# Altium footprint library PARSEC(1).PcbLib: 16 footprints
Each footprint in its own frame and in the unit in brackets; x right, y up, seen from the top. Pads: shape width x height; smd on the part's side, far side on the other; paste and mask are expansions set on the pad; w line width, h text height; cw(c..) or ccw(c..) is an arc to the next point about the centre after c.
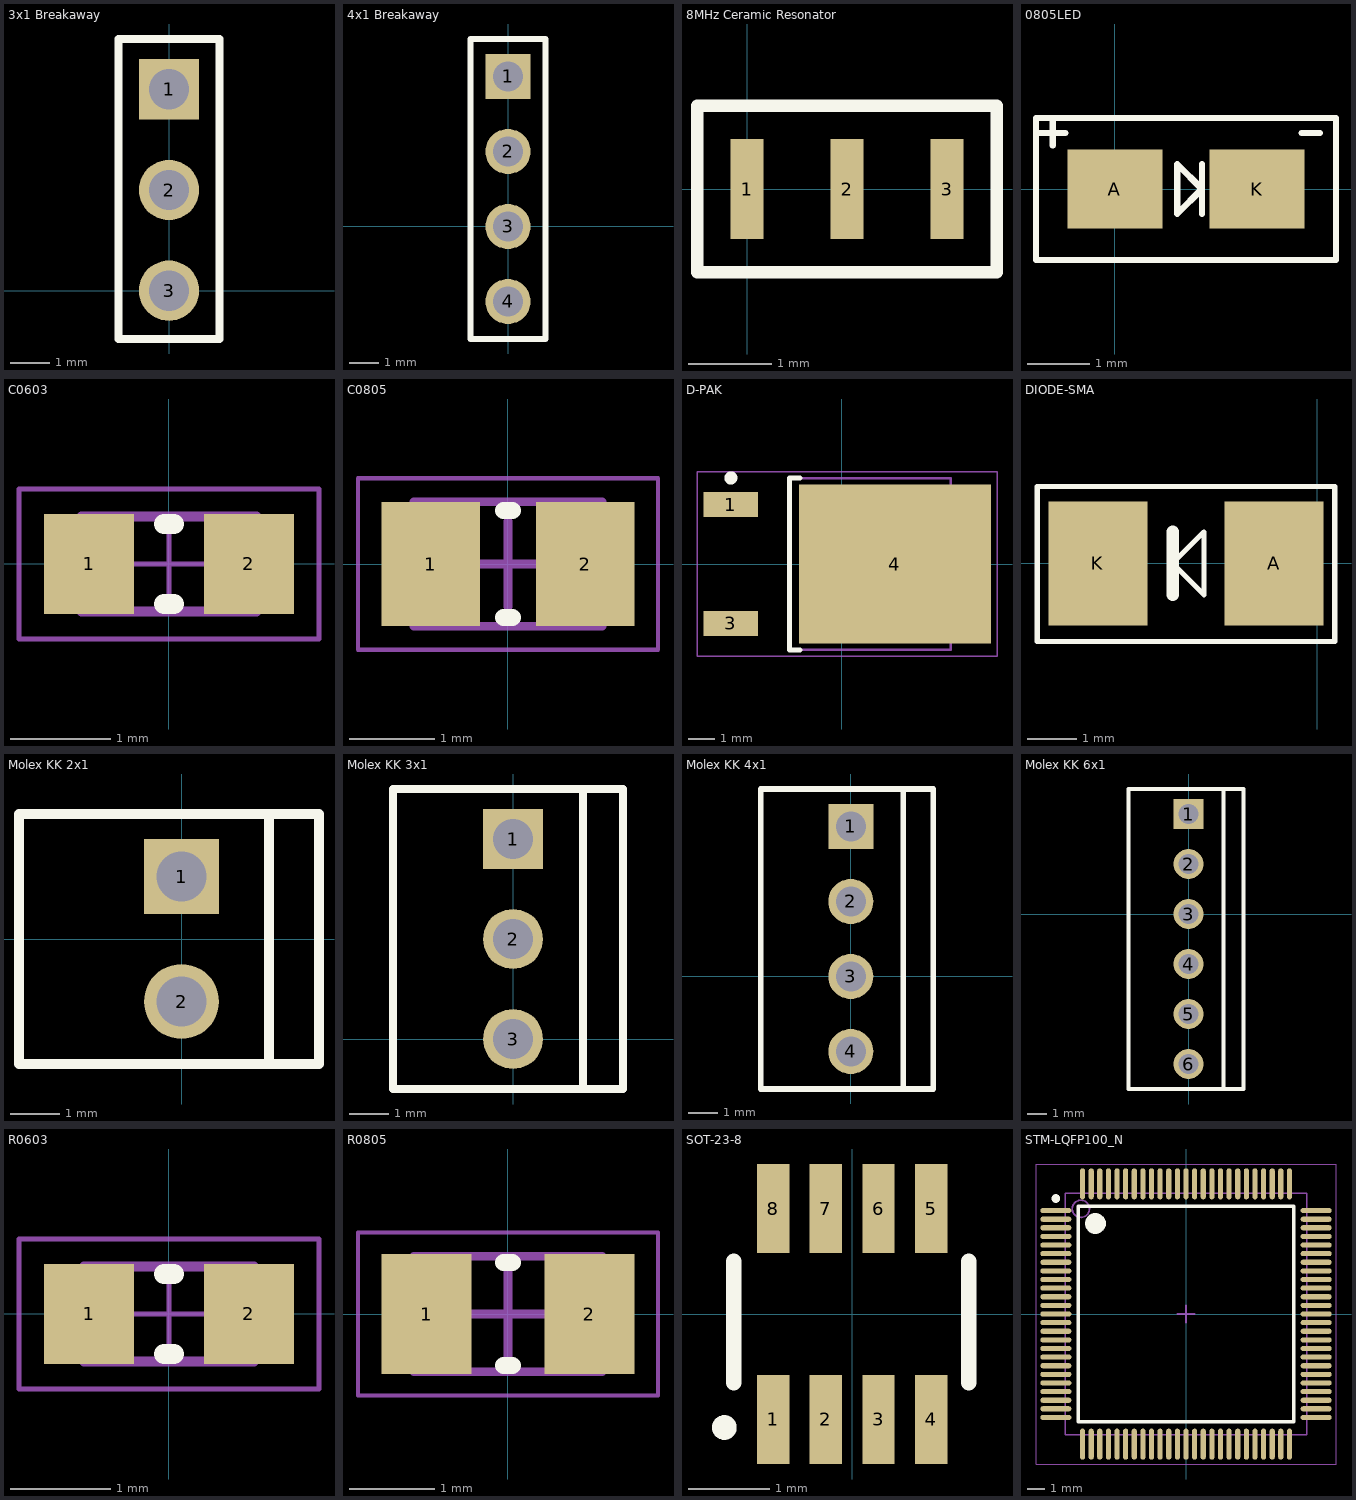
[diagram p0: the footprints below, top view; thin cyan lines are the x and y axes]

## 3x1 Breakaway [mil] "3x1 segment of  a breakaway pin header"
pads (3):
  rect 60x60 hole 40: 1(0,200)
  round 60 hole 40: 2(0,100) 3(0,0)
Top Overlay:
  lines w7.87: -50,-48 -50,250 50,250 50,-48 -50,-48
3D body "Pin Header 1x3 TH Pitch 2.54mm.stp": height 373.85, standoff -125.98, extent -50.01,-49.99 49.99,250.01
3D body: height 43.31, standoff 0, extent 0,50 0,50

## 4x1 Breakaway [mil] "4x1 segment of  a breakaway pin header"
pads (4):
  rect 60x60 hole 40: 1(0,200)
  round 60 hole 40: 2(0,100) 3(0,0) 4(0,-100)
Top Overlay:
  lines w7.87: -50,-150 50,-150 50,250 -50,250 -50,-120 -50,-150
3D body "Pin Header 1x4 TH Pitch 2.54mm.stp": height 373.85, standoff -125.98, extent -50,-150 50,250
3D body: height 43.31, standoff 0, extent 0,50 0,50

## 8MHz Ceramic Resonator [mm] "8MHz Ceramic Resonator Murata"
pads (3):
  rect 0.4x1.2 smd: 1(0,0) 2(1.2,0) 3(2.4,0)
Top Overlay:
  lines w0.15: -0.6,-1 3,-1 3,1 -0.6,1 -0.6,-1
3D body: height 0.7, standoff 0, extent 1.2,0 1.2,0
3D body "CSTCE.step": height 0.7, standoff 0, extent -0.4,-0.65 2.8,0.65

## 0805LED [mil]
pads (2):
  rect 60x50 smd: A(0,0) K(90,0)
Top Overlay:
  lines w4: -50,35.43 -31.5,35.43 ; -39.37,27.56 -39.37,43.31 ; 55.12,-15.75 55.12,15.75 ; 118.11,35.43 129.92,35.43 ; -50,-45 -50,45 140,45 140,-45 -50,-45 ; 39.37,-15.75 39.37,15.75 55.12,0 39.37,-15.75
3D body "User Library-LED SMD0805.step": height 33.45, standoff 0.23, extent -0.6,-15.68 80.6,20

## C0603 [mm] "Chip Capacitor, Body 1.6x0.8mm, Height 1.0mm, IPC Medium Density"
height 1
pads (2):
  rect 0.9x1 smd: 1(-0.8,0) 2(0.8,0)
Top Overlay:
  lines w0.2: -0.05,-0.4 0.05,-0.4 ; -0.05,0.4 0.05,0.4
Mechanical 13:
  lines w0.1: -0.875,-0.475 0.875,-0.475 0.875,0.475 -0.875,0.475 -0.875,-0.475
Mechanical 15:
  lines w0.05: -0.475,0 0.475,0 ; 0,-0.475 0,0.475 ; -1.5,-0.75 1.5,-0.75 1.5,0.75 -1.5,0.75 -1.5,-0.75
3D body: height 1, standoff 0, extent 0.525,-0.475 0.875,0.475
3D body: height 1, standoff 0, extent -0.875,-0.475 -0.525,0.475
3D body: height 1, standoff 0, extent -0.525,-0.475 0.525,0.475

## C0805 [mm] "Chip Capacitor, Body 2.0x1.2mm, Height 0.75mm, IPC Medium Density"
height 0.75
pads (2):
  rect 1.15x1.45 smd: 1(-0.9,0) 2(0.9,0)
Top Overlay:
  lines w0.2: -0.05,-0.625 0.05,-0.625 ; -0.05,0.625 0.05,0.625
Mechanical 13:
  lines w0.1: -1.1,-0.725 1.1,-0.725 1.1,0.725 -1.1,0.725 -1.1,-0.725
Mechanical 15:
  lines w0.05: -1.75,-1 1.75,-1 1.75,1 -1.75,1 -1.75,-1
  lines w0.1: -0.5,0 0.5,0 ; 0,-0.5 0,0.5
3D body "User Library-cap0805.STEP": height 0.93, standoff -0.01, extent -1.425,-0.667 1.575,0.733

## D-PAK [mm] "D-PAK, 4-Leads, Body 6.1x6.5mm, Pitch 2.28mm, Lead Span 9.7mm, IPC Medium Density"
height 2.4
pads (3):
  rect 2.1x0.95 smd: 1(-4.25,2.28) 3(-4.25,-2.28)
  rect 7.366x6.096 smd: 4(2.05,0)
Top Overlay:
  circle w0.25: c-4.25,3.305 r0.125
  lines w0.2: -1.6,-3.3 -2,-3.3 -2,3.3 -1.6,3.3
Mechanical 13:
  lines w0.1: -2,-3.3 -2,3.3 4.2,3.3 4.2,-3.3 -2,-3.3
Mechanical 15:
  lines w0.05: -5.55,-3.55 -5.55,3.55 5.969,3.55 5.969,1.356 5.969,-1.356 5.969,-3.55 -5.55,-3.55
  lines w0.1: -0.5,0 0.5,0 ; 0,-0.5 0,0.5
3D body "User Library-TO252AA.step": height 2.3, standoff -0.01, extent -4.596,-3.278 5.104,3.302

## DIODE-SMA [mm]
pads (2):
  rect 2x2.5 smd: A(-0.875,0) K(-4.425,0)
Top Overlay:
  lines w0.102: -5.65,-1.575 -5.65,1.55 0.35,1.55 0.35,-1.575 -5.65,-1.575 ; -2.921,0 -2.286,0.635 -2.286,0 -2.286,-0.635 -2.921,0
  lines w0.25: -2.921,-0.635 -2.921,0 -2.921,0.635
3D body "User Library-DO-214Aa SMA.step": height 2.4, standoff 0, extent -5.2,-1.3 0,1.3

## Molex KK 2x1 [mil]
pads (2):
  rect 60x60 hole 40: 1(0,50)
  round 60 hole 40: 2(0,-50)
Top Overlay:
  lines w7.87: -120,-100 110,-100 110,100 -130,100 -130,-60 -130,-100 -110,-100 ; 70,-100 70,100
3D body "User Library-molex kk 0_1in latching 2 way vertical header.step": height 457.5, standoff -142.5, extent -120,-100 110,100

## Molex KK 3x1 [mil]
pads (3):
  rect 60x60 hole 40: 1(0,200)
  round 60 hole 40: 2(0,100) 3(0,0)
Top Overlay:
  lines w7.87: 70,-50 70,250 ; -120,-50 -120,250 110,250 110,-50 20,-50 -15,-50 -120,-50
3D body "User Library-Molex - 3-Pin Header with Lock (0_100in pitch).STEP": height 420.58, standoff -139.26, extent -126,-50 124,250

## Molex KK 4x1 [mil]
pads (4):
  rect 60x60 hole 40: 1(0,200)
  round 60 hole 40: 2(0,100) 3(0,0) 4(0,-100)
Top Overlay:
  lines w7.87: 70,-150 70,250 ; -120,-150 110,-150 110,250 -120,250 -120,-120 -120,-150
3D body "User Library-molex kk 0_1in latching 4 way vertical header.step": height 457.5, standoff -142.5, extent -120,-150 110,250

## Molex KK 6x1 [mil]
pads (6):
  rect 60x60 hole 40: 1(0,200)
  round 60 hole 40: 2(0,100) 3(0,0) 4(0,-100) 5(0,-200) 6(0,-300)
Top Overlay:
  lines w7.87: 70,-350 70,250 ; -120,-350 -120,-120 -120,250 110,250 110,-350 -120,-350
3D body "User Library-molex kk 0_1in latching 6 way vertical header.step": height 457.5, standoff -142.5, extent -120,-350 110,250

## R0603 [mm] "Chip Resistor, Body 1.6x0.8mm, IPC Medium Density"
height 0.6
pads (2):
  rect 0.9x1 smd: 1(-0.8,0) 2(0.8,0)
Top Overlay:
  lines w0.2: -0.05,-0.4 0.05,-0.4 ; -0.05,0.4 0.05,0.4
Mechanical 13:
  lines w0.1: -0.85,-0.475 -0.85,0.475 0.85,0.475 0.85,-0.475 -0.85,-0.475
Mechanical 15:
  lines w0.05: -0.475,0 0.475,0 ; 0,-0.475 0,0.475 ; -1.5,-0.75 -1.5,0.75 1.5,0.75 1.5,-0.75 -1.5,-0.75
3D body: height 0.6, standoff 0, extent 0.581,-0.474 0.85,0.475
3D body: height 0.6, standoff 0, extent -0.58,-0.474 0.581,0.475
3D body: height 0.6, standoff 0, extent -0.849,-0.474 -0.58,0.475

## R0805 [mm] "Chip Resistor, Body 2.0x1.3mm, IPC Medium Density"
height 0.7
pads (2):
  rect 1.05x1.4 smd: 1(-0.95,0) 2(0.95,0)
Top Overlay:
  lines w0.2: -0.05,-0.6 0.05,-0.6 ; -0.05,0.6 0.05,0.6
Mechanical 13:
  lines w0.1: -1.1,-0.675 1.1,-0.675 1.1,0.675 -1.1,0.675 -1.1,-0.675
Mechanical 15:
  lines w0.05: -1.75,-0.95 1.75,-0.95 1.75,0.95 -1.75,0.95 -1.75,-0.95
  lines w0.1: -0.5,0 0.5,0 ; 0,-0.5 0,0.5
3D body "User Library-res0805.STEP": height 0.53, standoff 0, extent -1.465,-0.702 1.535,0.698

## SOT-23-8 [mm] "SOT-23-8"
pads (8):
  rect 0.4x1.1 smd: 1(-0.975,-1.3) 2(-0.325,-1.3) 3(0.325,-1.3) 4(0.975,-1.3) 5(0.975,1.3) 6(0.325,1.3) 7(-0.325,1.3) 8(-0.975,1.3)
Top Overlay:
  circle w0.152: c-1.576,-1.4 r0.076
  lines w0.191: -1.46,-0.85 -1.46,0.65 ; 1.44,-0.85 1.44,0.65
3D body "User Library-SOT23-8.step": height 1.11, standoff 0, extent -1.5,-1.402 1.5,1.402

## STM-LQFP100_N [mm] "Thin QFP, 100-Leads, Body 14x14mm, Pitch 0.5mm, IPC Medium Density"
height 1.6
pads (100):
  oval 1.8x0.3 smd: 1(-7.55,6) 2(-7.55,5.5) 3(-7.55,5) 4(-7.55,4.5) 5(-7.55,4) 6(-7.55,3.5) 7(-7.55,3) 8(-7.55,2.5) 9(-7.55,2) 10(-7.55,1.5) 11(-7.55,1) 12(-7.55,0.5) 13(-7.55,0) 14(-7.55,-0.5) 15(-7.55,-1) 16(-7.55,-1.5) 17(-7.55,-2) 18(-7.55,-2.5) 19(-7.55,-3) 20(-7.55,-3.5) 21(-7.55,-4) 22(-7.55,-4.5) 23(-7.55,-5) 24(-7.55,-5.5) 25(-7.55,-6) 51(7.55,-6) 52(7.55,-5.5) 53(7.55,-5) 54(7.55,-4.5) 55(7.55,-4) 56(7.55,-3.5) 57(7.55,-3) 58(7.55,-2.5) 59(7.55,-2) 60(7.55,-1.5) 61(7.55,-1) 62(7.55,-0.5) 63(7.55,0) 64(7.55,0.5) 65(7.55,1) 66(7.55,1.5) 67(7.55,2) 68(7.55,2.5) 69(7.55,3) 70(7.55,3.5) 71(7.55,4) 72(7.55,4.5) 73(7.55,5) 74(7.55,5.5) 75(7.55,6)
  oval 0.3x1.8 smd: 26(-6,-7.55) 27(-5.5,-7.55) 28(-5,-7.55) 29(-4.5,-7.55) 30(-4,-7.55) 31(-3.5,-7.55) 32(-3,-7.55) 33(-2.5,-7.55) 34(-2,-7.55) 35(-1.5,-7.55) 36(-1,-7.55) 37(-0.5,-7.55) 38(0,-7.55) 39(0.5,-7.55) 40(1,-7.55) 41(1.5,-7.55) 42(2,-7.55) 43(2.5,-7.55) 44(3,-7.55) 45(3.5,-7.55) 46(4,-7.55) 47(4.5,-7.55) 48(5,-7.55) 49(5.5,-7.55) 50(6,-7.55) 76(6,7.55) 77(5.5,7.55) 78(5,7.55) 79(4.5,7.55) 80(4,7.55) 81(3.5,7.55) 82(3,7.55) 83(2.5,7.55) 84(2,7.55) 85(1.5,7.55) 86(1,7.55) 87(0.5,7.55) 88(0,7.55) 89(-0.5,7.55) 90(-1,7.55) 91(-1.5,7.55) 92(-2,7.55) 93(-2.5,7.55) 94(-3,7.55) 95(-3.5,7.55) 96(-4,7.55) 97(-4.5,7.55) 98(-5,7.55) 99(-5.5,7.55) 100(-6,7.55)
Top Overlay:
  circle w0.25: c-7.55,6.7 r0.125
  circle w0.6: c-5.25,5.25 r0.3
  lines w0.2: -6.25,-6.25 -6.25,6.25 6.25,6.25 6.25,-6.25 -6.25,-6.25
Mechanical 13:
  circle w0.1: c-6.1,6.1 r0.5
  lines w0.1: -7,-7 -7,7 7,7 7,-7 -7,-7
Mechanical 15:
  lines w0.05: -8.7,-8.7 -8.7,8.7 8.7,8.7 8.7,-8.7 -8.7,-8.7
  lines w0.1: -0.5,0 0.5,0 ; 0,-0.5 0,0.5
3D body: height 1.6, standoff 0.05, extent -7,-7 7,7